# EAGLE library part LT1206 (library opamps)
LT1206: High current high speed CFB opamp (Linear Technology) ±15V, ±500mA, 100µA bias 15mV offset, 27MHz UGF, 3.6nV/rt(Hz) noise
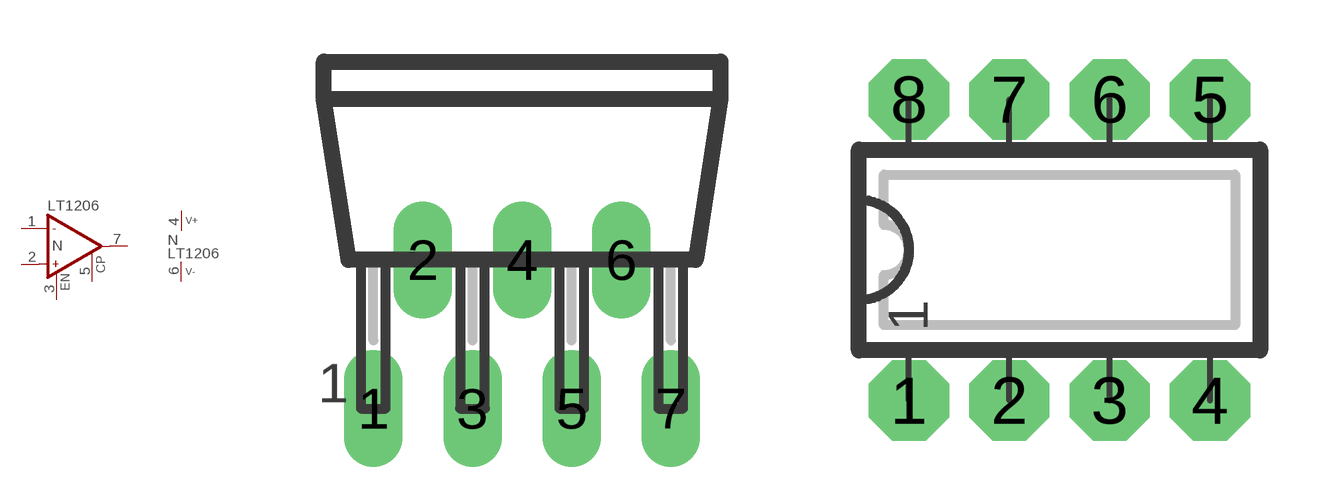
[diagram p194: symbol with the pads of TO220-7A; footprints TO220-7A, DIP08N]

Designator prefix N; gates A=OP_1206 P=V+-

## LT1206  [TO220-7A]
1  A:IN-  in
2  A:IN+  in
3  A:EN  in
4  P:V+  pwr
5  A:CP
6  P:V-  pwr
7  A:OUT  out

## LT1206N  [DIP08N]
2  A:IN-  in
3  A:IN+  in
4  A:EN  in
5  A:CP
6  P:V-  pwr
7  A:OUT  out
8  P:V+  pwr

## LT1206L  [DIP08L]
Pads as for DIP08N

## LT1206R  [DIP08R]
Pads as for DIP08N

## LT1206T  [TO220-7A]
Pads as for TO220-7A

## LT1206S  [TO263-7]
Pads as for TO220-7A

## Footprint TO220-7A (pad centres in mm)
TO-220, alternating pads Power package, 7 pins
drill 0.991 pad 1.397 long: 1 -3.81,-1.27; 2 -2.54,2.54; 3 -1.27,-1.27; 4 0,2.54; 5 1.27,-1.27; 6 2.54,2.54; 7 3.81,-1.27

## Footprint DIP08N (pad centres in mm)
DIP-8 Standard IC package, 8 pins
drill 0.813 pad 2.032 octagon: 1 -3.81,-3.81; 2 -1.27,-3.81; 3 1.27,-3.81; 4 3.81,-3.81; 5 3.81,3.81; 6 1.27,3.81; 7 -1.27,3.81; 8 -3.81,3.81

## Footprint DIP08L (pad centres in mm)
DIP-8, long pads Standard IC package, 8 pins
drill 0.813 pad 1.397 long: 1 -3.81,-3.81; 2 -1.27,-3.81; 3 1.27,-3.81; 4 3.81,-3.81; 5 3.81,3.81; 6 1.27,3.81; 7 -1.27,3.81; 8 -3.81,3.81

## Footprint DIP08R (pad centres in mm)
DIP-8, reduced pads Standard IC package, 8 pins
drill 0.813 pad 1.397 square: 1 -3.81,-3.81; 2 -1.27,-3.81; 3 1.27,-3.81; 4 3.81,-3.81; 5 3.81,3.81; 6 1.27,3.81; 7 -1.27,3.81; 8 -3.81,3.81

## Footprint TO263-7 (pad centres in mm)
TO-263 SMD power pac, 7 pins
smd 0.914 x 5.08: 1 -3.81,-0.318; 2 -2.54,-0.318; 3 -1.27,-0.318; 4 0,-0.318; 5 1.27,-0.318; 6 2.54,-0.318; 7 3.81,-0.318
smd 10.414 x 11.938: CASE 0,9.525